# Altium schematic symbol library SCH - POWER - SWITCHMODE - TI TPS51462_RGE_24.SchLib: 1 symbol
Pins are listed as number, name and electrical type; pins without a type are passive.

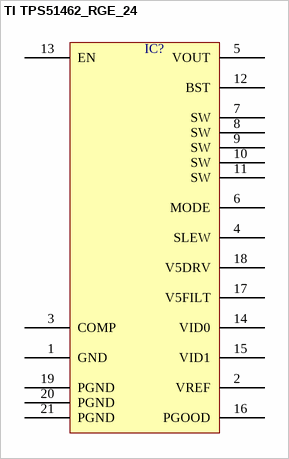
[diagram p0: symbol TI TPS51462_RGE_24]

## TI TPS51462_RGE_24
designator IC?  (value not drawn)
pins: 1 GND, 2 VREF, 3 COMP, 4 SLEW, 5 VOUT, 6 MODE, 7 SW, 8 SW, 9 SW, 10 SW, 11 SW, 12 BST, 13 EN, 14 VID0, 15 VID1, 16 PGOOD, 17 V5FILT, 18 V5DRV, 19 PGND, 20 PGND, 21 PGND